# Altium schematic symbol library Schlib1.SchLib: 2 symbols
Pins are listed as number, name and electrical type; pins without a type are passive.

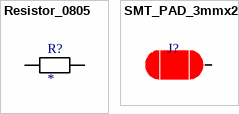
[diagram p0: symbols Resistor_0805 to SMT_PAD_3mmx2mm]

## Resistor_0805
designator R?
Supplier 1: Mouser; Supplier Part Number 1: 71-CRCW0805-158K
footprint Resistor_0805 (Chip Resistor, 2-Leads, Body 2,05x1,25mm, IPC Medium Density)
pins: 1, 2

## SMT_PAD_3mmx2mm
designator J?  (value not drawn)
footprint SMT_PAD_3mmx2mm
pins: 0